# EAGLE library part 1X10 (library LARS_409_CONNECTORS)
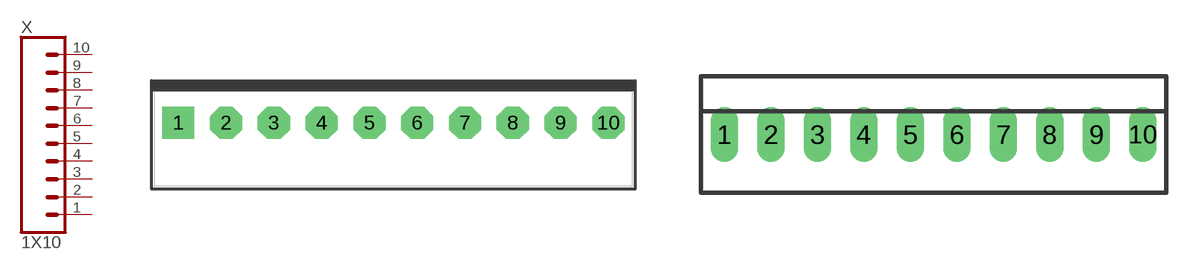
[diagram p4: symbol with the pads of JST-B10P-VH; footprints JST-B10P-VH, MOLEX-10]

Designator prefix X

## 1X10B10P-VH  [JST-B10P-VH]
1  1  pas
2  2  pas
3  3  pas
4  4  pas
5  5  pas
6  6  pas
7  7  pas
8  8  pas
9  9  pas
10  10  pas

## 1X10MOLEX-10  [MOLEX-10]
Pads as for JST-B10P-VH

## 1X10JST-XH-10  [JST-XH-10]
Pads as for JST-B10P-VH

## 1X10EDGVC  [15EDGVC-3.5-10P]
Pads as for JST-B10P-VH

## 1X10  [15EDGVC-5.08-10P]
Pads as for JST-B10P-VH

## 1X10DUPON  [1X10DUPON]
Pads as for JST-B10P-VH

## 1X10WF-10  [WF-10]
P$1  1  pas
P$2  2  pas
P$3  3  pas
P$4  4  pas
P$5  5  pas
P$6  6  pas
P$7  7  pas
P$8  8  pas
P$9  9  pas
P$10  10  pas

## Footprint JST-B10P-VH (pad centres in mm)
HEADER
drill 1.778 square: 1 -17.82,0
drill 1.778 octagon: 2 -13.86,0; 3 -9.9,0; 4 -5.94,0; 5 -1.98,0; 6 1.98,0; 7 5.94,0; 8 9.9,0; 9 13.86,0; 10 17.82,0

## Footprint MOLEX-10 (pad centres in mm)
KK® 254 Solid Header, Vertical, with Friction Lock, 10 Circuits, Tin (Sn) Plating Datasheet <http://www.molex.com/pdm_docs/sd/022232101_sd.pdf>
drill 1 long: 1 -11.43,0; 2 -8.89,0; 3 -6.35,0; 4 -3.81,0; 5 -1.27,0; 6 1.27,0; 7 3.81,0; 8 6.35,0; 9 8.89,0; 10 11.43,0

## Footprint JST-XH-10 (pad centres in mm)
JST XH Connector Long Pads (Package) Wire to board connector. Pitch: 2,54 mm, (0.100") Number of pins: 10 Created by Rembrandt Electronics www.rembrandtelectronics.com
drill 1.016 long: 1 -11.43,0; 2 -8.89,0; 3 -6.35,0; 4 -3.81,0; 5 -1.27,0; 6 1.27,0; 7 3.81,0; 8 6.35,0; 9 8.89,0; 10 11.43,0

## Footprint 15EDGVC-3.5-10P (pad centres in mm)
drill 1.1 pad 1.93 long: 1 0,0; 2 3.5,0; 3 7,0; 4 10.5,0; 5 14,0; 6 17.5,0; 7 21,0; 8 24.5,0; 9 28,0; 10 31.5,0

## Footprint 15EDGVC-5.08-10P (pad centres in mm)
drill 1.1 pad 1.93 long: 1 0,0; 2 5.08,0; 3 10.16,0; 4 15.24,0; 5 20.32,0; 6 25.4,0; 7 30.48,0; 8 35.56,0; 9 40.64,0; 10 45.72,0

## Footprint 1X10DUPON (pad centres in mm)
Single-row, 10-pin Pin Header (Male) Straight, 2.54 mm (0.10 in) col pitch, 5.84 mm mating length, 25.40 X 2.54 X 8.38 mm body Single-row (1X10), 10-pin Pin Header (Male) Straight package with 2.54 mm (0.10 in) col pitch, 0.64 mm lead width, 3.00 mm tail length and 5.84 mm mating length with overall size 25.40 X 2.54 X 8.38 mm, pin pattern - clockwise from top left
drill 1.016 pad 1.88: 1 0,0; 2 2.54,0; 3 5.08,0; 4 7.62,0; 5 10.16,0; 6 12.7,0; 7 15.24,0; 8 17.78,0; 9 20.32,0; 10 22.86,0

## Footprint WF-10 (pad centres in mm)
drill 0.8 pad 1.8: P$1 0,0; P$2 2.54,0; P$3 5.08,0; P$4 7.62,0; P$5 10.16,0; P$6 12.7,0; P$7 15.24,0; P$8 17.78,0; P$9 20.32,0; P$10 22.86,0